# EAGLE library part BEAGLEBONEBLACK (library 0HuskyRobotics17-18)
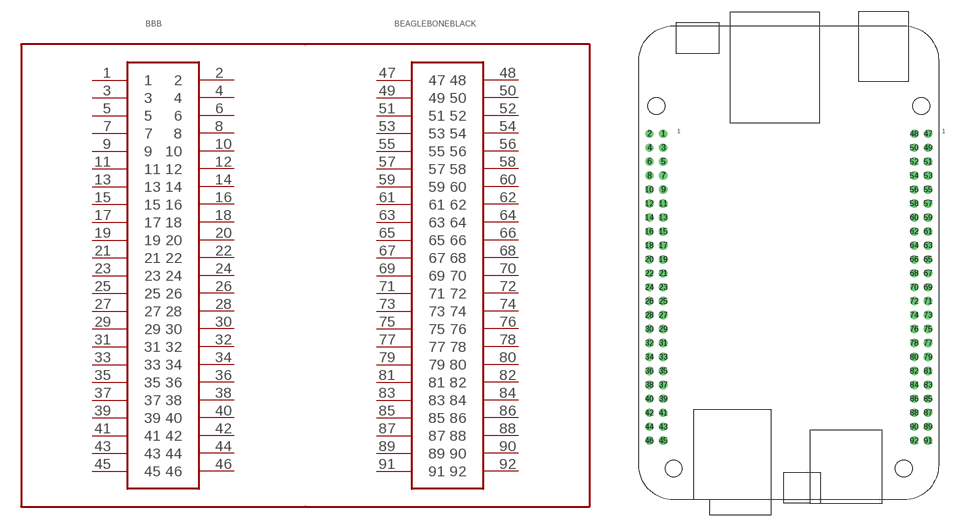
[diagram p7: symbol with the pads of BBB; footprint BBB]

Designator prefix BBB

## BEAGLEBONEBLACK  [BBB]
1  1
2  2
3  3
4  4
5  5
6  6
7  7
8  8
9  9
10  10
11  11
12  12
13  13
14  14
15  15
16  16
17  17
18  18
19  19
20  20
21  21
22  22
23  23
24  24
25  25
26  26
27  27
28  28
29  29
30  30
31  31
32  32
33  33
34  34
35  35
36  36
37  37
38  38
39  39
40  40
41  41
42  42
43  43
44  44
45  45
46  46
47  47
48  48
49  49
50  50
51  51
52  52
53  53
54  54
55  55
56  56
57  57
58  58
59  59
60  60
61  61
62  62
63  63
64  64
65  65
66  66
67  67
68  68
69  69
70  70
71  71
72  72
73  73
74  74
75  75
76  76
77  77
78  78
79  79
80  80
81  81
82  82
83  83
84  84
85  85
86  86
87  87
88  88
89  89
90  90
91  91
92  92

## Footprint BBB (pad centres in mm)
drill 1.016: 1 -50.165,66.675; 2 -52.705,66.675; 3 -50.165,64.135; 4 -52.705,64.135; 5 -50.165,61.595; 6 -52.705,61.595; 7 -50.165,59.055; 8 -52.705,59.055; 9 -50.165,56.515; 10 -52.705,56.515; 11 -50.165,53.975; 12 -52.705,53.975; 13 -50.165,51.435; 14 -52.705,51.435; 15 -50.165,48.895; 16 -52.705,48.895; 17 -50.165,46.355; 18 -52.705,46.355; 19 -50.165,43.815; 20 -52.705,43.815; 21 -50.165,41.275; 22 -52.705,41.275; 23 -50.165,38.735; 24 -52.705,38.735; 25 -50.165,36.195; 26 -52.705,36.195; 27 -50.165,33.655; 28 -52.705,33.655; 29 -50.165,31.115; 30 -52.705,31.115; 31 -50.165,28.575; 32 -52.705,28.575; 33 -50.165,26.035; 34 -52.705,26.035; 35 -50.165,23.495; 36 -52.705,23.495; 37 -50.165,20.955; 38 -52.705,20.955; 39 -50.165,18.415; 40 -52.705,18.415; 41 -50.165,15.875; 42 -52.705,15.875; 43 -50.165,13.335; 44 -52.705,13.335; 45 -50.165,10.795; 46 -52.705,10.795; 47 -1.905,66.675; 48 -4.445,66.675; 49 -1.905,64.135; 50 -4.445,64.135; 51 -1.905,61.595; 52 -4.445,61.595; 53 -1.905,59.055; 54 -4.445,59.055; 55 -1.905,56.515; 56 -4.445,56.515; 57 -1.905,53.975; 58 -4.445,53.975; 59 -1.905,51.435; 60 -4.445,51.435; 61 -1.905,48.895; 62 -4.445,48.895; 63 -1.905,46.355; 64 -4.445,46.355; 65 -1.905,43.815; 66 -4.445,43.815; 67 -1.905,41.275; 68 -4.445,41.275; 69 -1.905,38.735; 70 -4.445,38.735; 71 -1.905,36.195; 72 -4.445,36.195; 73 -1.905,33.655; 74 -4.445,33.655; 75 -1.905,31.115; 76 -4.445,31.115; 77 -1.905,28.575; 78 -4.445,28.575; 79 -1.905,26.035; 80 -4.445,26.035; 81 -1.905,23.495; 82 -4.445,23.495; 83 -1.905,20.955; 84 -4.445,20.955; 85 -1.905,18.415; 86 -4.445,18.415; 87 -1.905,15.875; 88 -4.445,15.875; 89 -1.905,13.335; 90 -4.445,13.335; 91 -1.905,10.795; 92 -4.445,10.795